# Altium schematic symbol library TPS63020.SchLib: 1 symbol
Pins are listed as number, name and electrical type; pins without a type are passive.

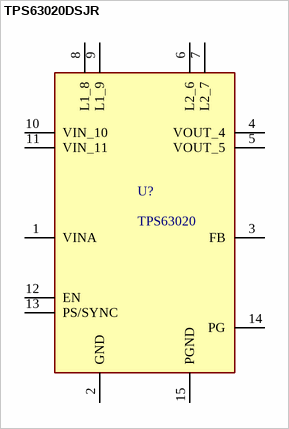
[diagram p0: symbol TPS63020DSJR]

## TPS63020DSJR
designator U?, comment TPS63020
High Efficiency Single Inductor Buck-Boost Converter with 4A Switch; MF: Texas Instruments; MP: TPS63020DSJR; SnapEDA_Link: https://www.snapeda.com/parts/TPS63020DSJR/Texas+Instruments/view-part/?ref=snap; Package: VSON-14 Texas Instruments; Value: *; Check_prices: https://www.snapeda.com/parts/TPS63020DSJR/Texas+Instruments/view-part/?ref=eda
footprint IC_TPS63020DSJR
pins: 1 VINA, 2 GND, 3 FB, 4 VOUT_4, 5 VOUT_5, 6 L2_6, 7 L2_7, 8 L1_8, 9 L1_9, 10 VIN_10, 11 VIN_11, 12 EN, 13 PS/SYNC, 14 PG, 15 PGND